# Altium schematic symbol library ISL21010CFH320Z-TK.SchLib: 1 symbol
Pins are listed as number, name and electrical type; pins without a type are passive.

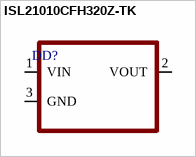
[diagram p0: symbol ISL21010CFH320Z-TK]

## ISL21010CFH320Z-TK
designator DD?
pins: 1 VIN, 2 VOUT, 3 GND